# EAGLE library part RGB-PIXEL (library ESPStack-mini)
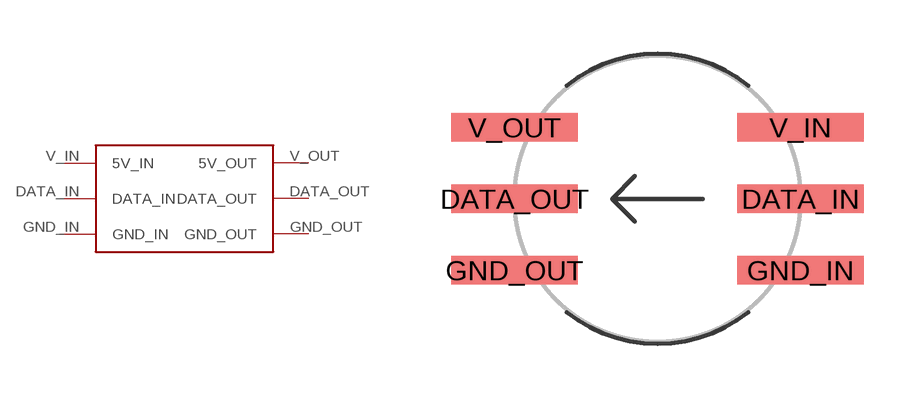
[diagram p3: symbol with the pads of RGB-PIXEL; footprint RGB-PIXEL]

Designator prefix -

## RGB-PIXEL  [RGB-PIXEL]
DATA_IN  DATA_IN
DATA_OUT  DATA_OUT
GND_IN  GND_IN  pwr
GND_OUT  GND_OUT  pwr
V_IN  5V_IN  pwr
V_OUT  5V_OUT  pwr

## Footprint RGB-PIXEL (pad centres in mm)
smd 3.54 x 0.8: DATA_IN 4,0; DATA_OUT -4,0; GND_IN 4,-2; GND_OUT -4,-2; V_IN 4,2; V_OUT -4,2